# Altium footprint library JY901.PcbLib: 1 footprints
Each footprint in its own frame and in the unit in brackets; x right, y up, seen from the top. Pads: shape width x height; smd on the part's side, far side on the other; paste and mask are expansions set on the pad; w line width, h text height; cw(c..) or ccw(c..) is an arc to the next point about the centre after c.
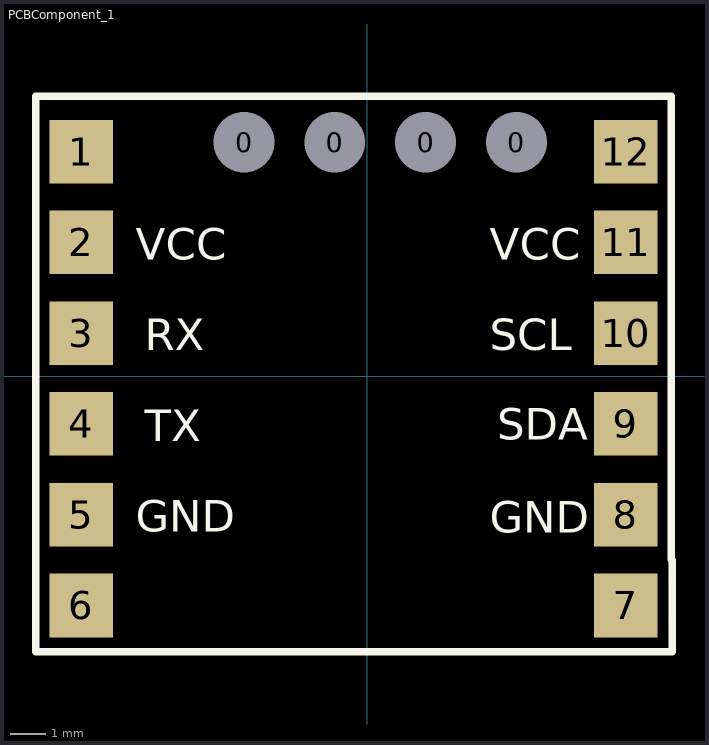
[diagram p0: the footprint, top view; thin cyan lines are the x and y axes]

## PCBComponent_1 [mil]
pads (16):
  oval 39.37x47.24 hole 66.93: 0(-135.67,258.11) 0(-35.67,258.11) 0(64.33,258.11)
  rect 39.37x47.24 hole 66.93: 0(164.33,258.11)
  rect 70x70 smd: 1(-315.04,247.74) 2(-315.04,147.74) 3(-315.04,47.74) 4(-315.04,-52.26) 5(-315.04,-152.26) 6(-315.04,-252.26) 7(284.96,-252.26) 8(284.96,-152.26) 9(284.96,-52.26) 10(284.96,47.74) 11(284.96,147.74) 12(284.96,247.74)
Top Overlay:
  lines w7.87: -365.04,-202.26 -365.04,197.74 ; 334.96,197.74 334.96,-202.26 335.96,-202.26
  lines w8: -365.04,-202.26 -365.04,-303.26 335.96,-303.26 335.96,-202.26 ; -365.04,197.74 -365.04,308.74 334.96,308.74 334.96,197.74
  text "VCC" at -255.04,128.74 h35
  text "VCC" at 134.96,128.74 h35
  text "GND" at -255.04,-171.26 h35
  text "GND" at 135.17,-172.1 h35
  text "RX" at -245.04,28.74 h35
  text "TX" at -245.04,-71.26 h35
  text "SDA" at 143.39,-69.61 h35
  text "SCL" at 134.96,28.74 h35